# Altium footprint library PcbLib1.PcbLib: 11 footprints
Each footprint in its own frame and in the unit in brackets; x right, y up, seen from the top. Pads: shape width x height; smd on the part's side, far side on the other; paste and mask are expansions set on the pad; w line width, h text height; cw(c..) or ccw(c..) is an arc to the next point about the centre after c.
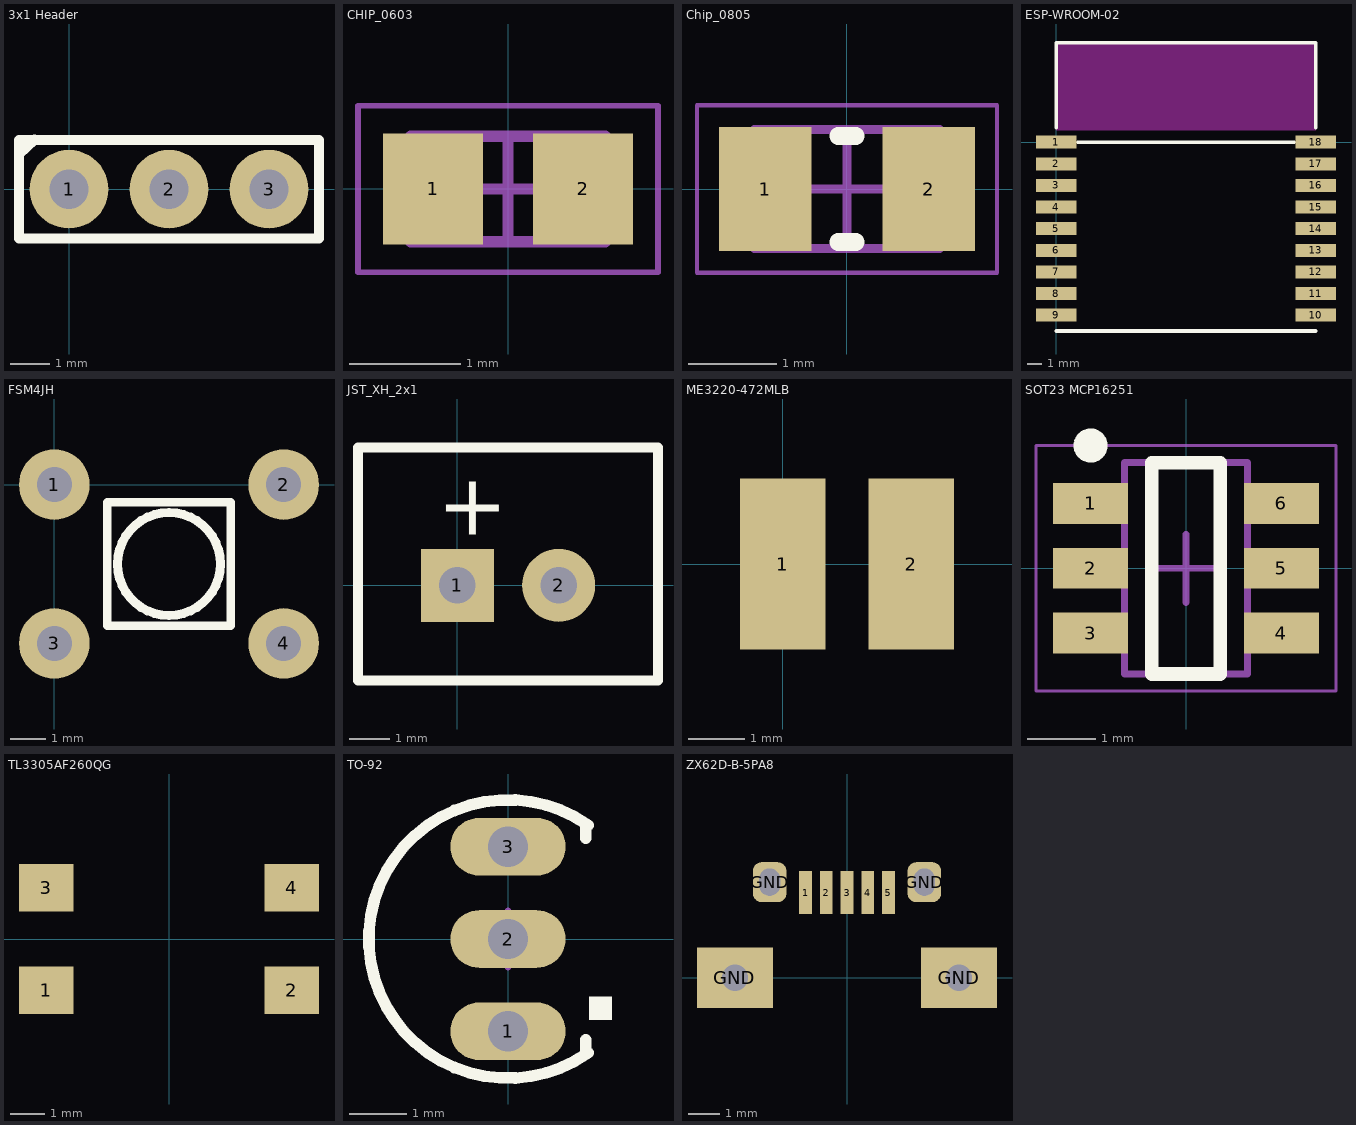
[diagram p0: the footprints below, top view; thin cyan lines are the x and y axes]

## 3x1 Header [mm] "3x1 Header"
pads (3):
  round 2 hole 1: 1(0,0) 2(2.54,0) 3(5.08,0)
Top Overlay:
  lines w0.254: -1.27,-1.25 6.35,-1.25 ; -1.27,-1.24 -1.27,1.25 6.35,1.25 6.35,-1.24 ; -1.27,0.89 -0.87,1.26

## CHIP_0603 [mm] "Chip Capacitor, 2-Leads, Body 1.60x0.80mm, IPC Medium Density"
height 0.8
pads (2):
  rect 0.9x1 smd: 1(-0.675,0) 2(0.675,0)
Mechanical 13:
  lines w0.1: -0.875,-0.475 0.875,-0.475 0.875,0.475 -0.875,0.475 -0.875,-0.475
Mechanical 15:
  lines w0.05: -1.35,-0.75 1.35,-0.75 1.35,0.75 -1.35,0.75 -1.35,-0.75
  lines w0.1: -0.475,0 0.475,0 ; 0,-0.475 0,0.475
3D body: height 0.8, standoff 0, extent 0.525,-0.475 0.875,0.475
3D body: height 0.8, standoff 0, extent -0.875,-0.475 -0.525,0.475
3D body: height 0.8, standoff 0, extent -0.525,-0.475 0.525,0.475

## Chip_0805 [mm] "Chip Capacitor, 2-Leads, Body 2.00x1.25mm, IPC Medium Density"
height 0.6
pads (2):
  rect 1.05x1.4 smd: 1(-0.925,0) 2(0.925,0)
Top Overlay:
  lines w0.2: -0.1,-0.6 0.1,-0.6 ; -0.1,0.6 0.1,0.6
Mechanical 13:
  lines w0.1: -1.05,-0.675 -1.05,0.675 1.05,0.675 1.05,-0.675 -1.05,-0.675
Mechanical 15:
  lines w0.05: -1.7,-0.95 -1.7,0.95 1.7,0.95 1.7,-0.95 -1.7,-0.95
  lines w0.1: -0.5,0 0.5,0 ; 0,-0.5 0,0.5
3D body: height 0.6, standoff 0, extent -0.7,-0.675 0.7,0.675
3D body: height 0.6, standoff 0, extent -1.05,-0.675 -0.7,0.675
3D body: height 0.6, standoff 0, extent 0.7,-0.675 1.05,0.675

## ESP-WROOM-02 [mm] "ESP-WROOM-02"
height 2.9
pads (18):
  rect 2.8x0.9 smd: 1(0,0) 2(0,-1.5) 3(0,-3) 4(0,-4.5) 5(0,-6) 6(0,-7.5) 7(0,-9) 8(0,-10.5) 9(0,-12) 10(18,-12) 11(18,-10.5) 12(18,-9) 13(18,-7.5) 14(18,-6) 15(18,-4.5) 16(18,-3) 17(18,-1.5) 18(18,0)
Top Overlay:
  lines w0.254: 0,-13.1 18,-13.1 ; 0,1 0,6.9 18,6.9 18,1 ; 1.5,0 16.5,0
Keep-Out Layer:
  rectangle: 0,0.8 18,6.8
3D body: height 2, standoff 0.9, extent 1.2,-12.3 16.8,0
3D body: height 0.9, standoff 0, extent 0,-13.1 18,6.9

## FSM4JH [mm] "FSM4JH"
height 5
pads (4):
  round 2 hole 0.99: 1(0,0) 2(6.5,0) 3(0,-4.5) 4(6.5,-4.5)
Top Overlay:
  circle w0.254: c3.25,-2.25 r1.458
  lines w0.254: 1.5,-4 1.5,-0.5 5,-0.5 5,-4 1.5,-4
3D body: height 3.61, standoff 0, extent 0.25,-5.25 6.25,0.75
3D body: height 5.01, standoff 3.61, extent 1.495,-4.005 5.005,-0.495

## JST_XH_2x1 [mm] "JST HX 2pin, 1row, 2.5mm pitch"
height 7
pads (2):
  rect 1.8x1.8 hole 0.9: 1(0,0)
  round 1.8 hole 0.9: 2(2.5,0)
Top Overlay:
  lines w0.254: -2.45,-2.35 4.95,-2.35 4.95,3.4 -2.45,3.4 -2.45,-2.35
  text "+" at -0.5,1.25 h1.52

## ME3220-472MLB [mil] "ME3220-472MLB"
height 78.74
pads (2):
  rect 60x120 smd: 1(0,0) 2(90,0)
3D body: height 10, standoff 0, extent -18,-55 108,55
3D body: height 69, standoff 0, extent -0.64,-45.91 91,45.91
3D body: height 79, standoff 69, extent -4,-55 94,55

## SOT23 MCP16251 [mm] "SOT23, 6-Leads, Body 2.90x2.70mm, Pitch 0.95mm, IPC Medium Density"
height 1.45
pads (6):
  rect 1.1x0.6 smd: 1(-1.4,0.95) 2(-1.4,0) 3(-1.4,-0.95) 4(1.4,-0.95) 5(1.4,0) 6(1.4,0.95)
Top Overlay:
  circle w0.25: c-1.4,1.8 r0.125
  lines w0.2: -0.5,-1.55 0.5,-1.55 0.5,1.55 -0.5,1.55 -0.5,-1.55
Mechanical 13:
  lines w0.1: -0.9,-1.55 -0.9,1.55 0.9,1.55 0.9,-1.55 -0.9,-1.55
Mechanical 15:
  lines w0.05: -2.2,-1.8 -2.2,1.8 2.2,1.8 2.2,-1.8 -2.2,-1.8
  lines w0.1: -0.5,0 0.5,0 ; 0,-0.5 0,0.5
3D body: height 1.45, standoff 0, extent -0.9,-1.55 0.9,1.55

## TL3305AF260QG [mm] "TL3305AF260QG"
height 3.8
pads (4):
  rect 1.6x1.4 smd: 1(-3.6,-1.5) 2(3.6,-1.5) 3(-3.6,1.5) 4(3.6,1.5)
3D body: height 2.5, standoff 0, extent -2.25,-2.25 2.25,2.25
3D body: height 4.8, standoff 1, extent -1.24,-1.247 1.25,1.248

## TO-92 [mm] "TO, Flat Index; 3 In-Line, Axial Leads; Body Dia. 4.6mm; Leads 0.41 x 0.39 mm (max)"
height 4.7
pads (3):
  oval 2x1 hole 0.7: 1(0,-1.6) 2(0,0) 3(0,1.6)
Top Overlay:
  rectangle: 1.4,-1.4 1.8,-1
  lines w0.2: 1.35,-1.92 1.35,-1.75 ; 1.35,1.75 1.35,1.92 ; 1.388,-1.974 cw(c0,0) 1.388,1.974
Mechanical 15:
  lines w0.1: -0.5,0 0.5,0 ; 0,-0.5 0,0.5

## ZX62D-B-5PA8 [mm] "ZX62D-B-5PA8"
height 3
pads (9):
  rect 0.4x1.35 smd: 1(-1.3,2.675) 2(-0.65,2.675) 3(0,2.675) 4(0.65,2.675) 5(1.3,2.675)
  rect 2.38x1.9 hole 0.825 square: GND(-3.512,0) GND(3.512,0)
  rrect50% 1.05x1.25 hole 0.65 slot 0.85 at 90 deg: GND(-2.425,3) GND(2.425,3)
3D body "ZX62D-B-5PA8.stp": height 2.73, standoff -0.75, extent -4.046,-2.65 4.047,3.15